# EAGLE library part 27C400 (library sj_ic)
27C400 4 Mbit (512 Kbit x 8 or 256 Kbit x 16) EPROM
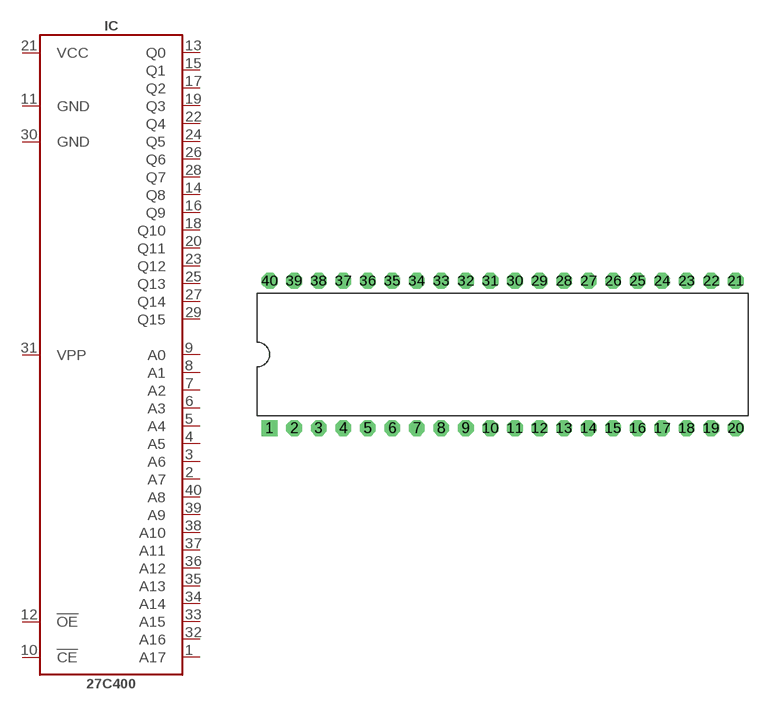
[diagram p6: symbol with the pads of DIP40; footprint DIP40]

Designator prefix IC

## 27C400_DIP  [DIP40]
1  A17
2  A7
3  A6
4  A5
5  A4
6  A3
7  A2
8  A1
9  A0
10  !CE
11  GND  pwr
12  !OE
13  Q0
14  Q8
15  Q1
16  Q9
17  Q2
18  Q10
19  Q3
20  Q11
21  VCC  pwr
22  Q4
23  Q12
24  Q5
25  Q13
26  Q6
27  Q14
28  Q7
29  Q15
30  GND  pwr
31  VPP  pwr
32  A16
33  A15
34  A14
35  A13
36  A12
37  A11
38  A10
39  A9
40  A8

## Footprint DIP40 (pad centres in mm)
40pin Dual In Line Package Wide (0.6 inch)
drill 0.813 pad 1.626 square: 1 -24.13,-7.62
drill 0.813 pad 1.626 octagon: 2 -21.59,-7.62; 3 -19.05,-7.62; 4 -16.51,-7.62; 5 -13.97,-7.62; 6 -11.43,-7.62; 7 -8.89,-7.62; 8 -6.35,-7.62; 9 -3.81,-7.62; 10 -1.27,-7.62; 11 1.27,-7.62; 12 3.81,-7.62; 13 6.35,-7.62; 14 8.89,-7.62; 15 11.43,-7.62; 16 13.97,-7.62; 17 16.51,-7.62; 18 19.05,-7.62; 19 21.59,-7.62; 20 24.13,-7.62; 21 24.13,7.62; 22 21.59,7.62; 23 19.05,7.62; 24 16.51,7.62; 25 13.97,7.62; 26 11.43,7.62; 27 8.89,7.62; 28 6.35,7.62; 29 3.81,7.62; 30 1.27,7.62; 31 -1.27,7.62; 32 -3.81,7.62; 33 -6.35,7.62; 34 -8.89,7.62; 35 -11.43,7.62; 36 -13.97,7.62; 37 -16.51,7.62; 38 -19.05,7.62; 39 -21.59,7.62; 40 -24.13,7.62